# Altium footprint library TPSM84338RCJR.PcbLib: 1 footprints
Each footprint in its own frame and in the unit in brackets; x right, y up, seen from the top. Pads: shape width x height; smd on the part's side, far side on the other; paste and mask are expansions set on the pad; w line width, h text height; cw(c..) or ccw(c..) is an arc to the next point about the centre after c.
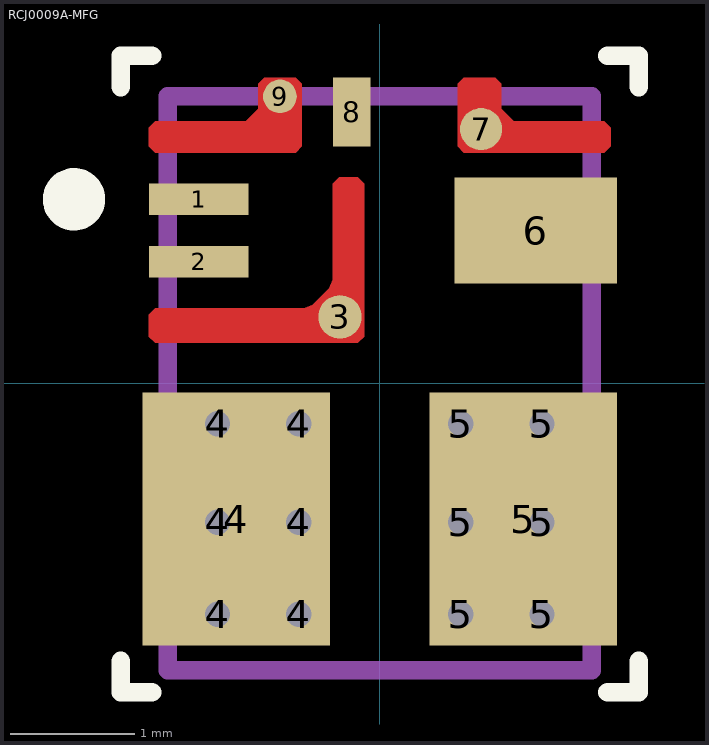
[diagram p0: the footprint, top view; thin cyan lines are the x and y axes]

## RCJ0009A-MFG [mm]
pads (21):
  rect 0.8x0.25 smd paste+0 mask-0.381: 1(-1.45,1.475) 2(-1.45,0.975)
  round 0.348 smd paste-0.161 mask-0.165: 3(-0.319,0.532)
  round 0.5 / inner round 1.524 / far side round 0.5 hole 0.203 paste-2539.97 mask-0.241: 4(-1.3,-1.85) 4(-1.3,-1.113) 4(-1.3,-0.325) 4(-0.65,-1.85) 4(-0.65,-1.113) 4(-0.65,-0.325) 5(0.65,-1.85) 5(0.65,-1.113) 5(0.65,-0.325) 5(1.3,-1.85) 5(1.3,-1.113) 5(1.3,-0.325)
  rect 1.5x2.025 smd paste-1 mask-1.003: 4(-1.15,-1.088) 5(1.15,-1.088)
  rect 1.3x0.85 smd paste-0.637 mask-0.635: 6(1.25,1.225)
  round 0.337 smd paste+0 mask-0.152: 7(0.812,2.037)
  rect 0.3x0.55 smd paste+0 mask-0.267: 8(-0.225,2.175)
  round 0.27 smd paste+0 mask-0.127: 9(-0.8,2.3)
Top Layer:
  region: -0.175,0.326 -1.8,0.325 -1.85,0.375 -1.85,0.55 -1.8,0.6 -0.606,0.6 -0.536,0.63 -0.404,0.761 -0.375,0.832 -0.375,1.6 -0.325,1.65 -0.175,1.65 -0.125,1.6 -0.125,0.376
  region: 0.675,1.85 1.8,1.85 1.85,1.9 1.85,2.05 1.8,2.1 1.075,2.1 0.975,2.2 0.975,2.4 0.925,2.45 0.675,2.45 0.625,2.4 0.625,1.9
  region: -0.675,1.85 -1.8,1.85 -1.85,1.9 -1.85,2.05 -1.8,2.1 -1.075,2.1 -0.975,2.2 -0.975,2.4 -0.925,2.45 -0.675,2.45 -0.625,2.4 -0.625,1.9
Top Overlay:
  circle w0.25: c-2.45,1.475 r0.125
  lines w0.15: -2.075,-2.225 -2.075,-2.475 -1.825,-2.475 ; -2.075,2.375 -2.075,2.625 -1.825,2.625 ; 1.825,-2.475 2.075,-2.475 2.075,-2.225 ; 1.825,2.625 2.075,2.625 2.075,2.375
Top Paste:
  region: 0.675,1.85 1.8,1.85 1.85,1.9 1.85,2.05 1.8,2.1 1.075,2.1 0.975,2.2 0.975,2.4 0.925,2.45 0.675,2.45 0.625,2.4 0.625,1.9
  region: -0.675,1.85 -1.8,1.85 -1.85,1.9 -1.85,2.05 -1.8,2.1 -1.075,2.1 -0.975,2.2 -0.975,2.4 -0.925,2.45 -0.675,2.45 -0.625,2.4 -0.625,1.9
  region: -1.201,-0.203 -1.151,-0.153 -0.526,-0.153 -0.476,-0.203 -0.476,-1.973 -0.526,-2.023 -1.151,-2.023 -1.201,-1.973
  region: 0.476,-0.203 0.526,-0.153 1.151,-0.153 1.201,-0.203 1.201,-1.973 1.151,-2.023 0.526,-2.023 0.476,-1.973
  region: 1.4,-0.74 1.4,-0.59 1.45,-0.54 1.8,-0.54 1.85,-0.59 1.85,-0.74 1.8,-0.79 1.45,-0.79
  region: -1.4,-0.59 -1.4,-0.74 -1.45,-0.79 -1.8,-0.79 -1.85,-0.74 -1.85,-0.59 -1.8,-0.54 -1.45,-0.54
  region: -1.45,-1.29 -1.8,-1.29 -1.85,-1.24 -1.85,-1.09 -1.8,-1.04 -1.45,-1.04 -1.4,-1.09 -1.4,-1.24
  region: 1.85,-1.24 1.8,-1.29 1.45,-1.29 1.4,-1.24 1.4,-1.09 1.45,-1.04 1.8,-1.04 1.85,-1.09
  region: 1.4,-1.59 1.45,-1.54 1.8,-1.54 1.85,-1.59 1.85,-1.74 1.8,-1.79 1.45,-1.79 1.4,-1.74
  region: -1.85,-1.74 -1.85,-1.59 -1.8,-1.54 -1.45,-1.54 -1.4,-1.59 -1.4,-1.74 -1.45,-1.79 -1.8,-1.79
  region: -0.175,1.65 -0.125,1.6 -0.125,0.375 -0.175,0.325 -0.325,0.325 -0.375,0.375 -0.375,1.6 -0.325,1.65
  region: -0.626,0.326 -1.8,0.326 -1.85,0.376 -1.85,0.55 -1.8,0.6 -0.626,0.6 -0.576,0.55 -0.576,0.376
  region: 1.8,0.85 0.7,0.85 0.65,0.9 0.65,1.55 0.7,1.6 1.8,1.6 1.85,1.55 1.85,1.4 1.8,1.35 1.5,1.35 1.45,1.3 1.45,1.15 1.5,1.1 1.8,1.1 1.85,1.05 1.85,0.9
Top Solder:
  region: 1.45,-0.49 1.45,-0.175 1.4,-0.125 0.5,-0.125 0.45,-0.175 0.45,-2 0.5,-2.05 1.4,-2.05 1.45,-2 1.45,-1.84 1.5,-1.79 1.8,-1.79 1.85,-1.74 1.85,-1.59 1.8,-1.54 1.5,-1.54 1.45,-1.49 1.45,-1.34 1.5,-1.29 1.8,-1.29 1.85,-1.24 1.85,-1.09 1.8,-1.04 1.5,-1.04 1.45,-0.99 1.45,-0.84 1.5,-0.79 1.8,-0.79 1.85,-0.74 1.85,-0.59 1.8,-0.54 1.5,-0.54
  region: -1.45,-0.49 -1.45,-0.175 -1.4,-0.125 -0.5,-0.125 -0.45,-0.175 -0.45,-2 -0.5,-2.05 -1.4,-2.05 -1.45,-2 -1.45,-1.84 -1.5,-1.79 -1.8,-1.79 -1.85,-1.74 -1.85,-1.59 -1.8,-1.54 -1.5,-1.54 -1.45,-1.49 -1.45,-1.34 -1.5,-1.29 -1.8,-1.29 -1.85,-1.24 -1.85,-1.09 -1.8,-1.04 -1.5,-1.04 -1.45,-0.99 -1.45,-0.84 -1.5,-0.79 -1.8,-0.79 -1.85,-0.74 -1.85,-0.59 -1.8,-0.54 -1.5,-0.54
  region: -0.175,0.276 -1.8,0.275 -1.9,0.375 -1.9,0.55 -1.8,0.65 -0.606,0.65 -0.571,0.665 -0.44,0.797 -0.425,0.832 -0.425,1.6 -0.325,1.7 -0.175,1.7 -0.075,1.6 -0.075,0.376
  region: 1.8,0.85 0.7,0.85 0.65,0.9 0.65,1.55 0.7,1.6 1.8,1.6 1.85,1.55 1.85,1.4 1.8,1.35 1.5,1.35 1.45,1.3 1.45,1.15 1.5,1.1 1.8,1.1 1.85,1.05 1.85,0.9
  region: 0.675,1.8 1.8,1.8 1.9,1.9 1.9,2.05 1.8,2.15 1.075,2.15 1.025,2.2 1.025,2.4 0.925,2.5 0.675,2.5 0.575,2.4 0.575,1.9
  region: -0.675,1.8 -1.8,1.8 -1.9,1.9 -1.9,2.05 -1.8,2.15 -1.075,2.15 -1.025,2.2 -1.025,2.4 -0.925,2.5 -0.675,2.5 -0.575,2.4 -0.575,1.9
  region: -0.425,2.4 -0.325,2.5 -0.125,2.5 -0.025,2.4 -0.025,1.95 -0.125,1.85 -0.325,1.85 -0.425,1.95
  region: -1.9,1.4 -1.9,1.55 -1.8,1.65 -1.1,1.65 -1,1.55 -1,1.4 -1.1,1.3 -1.8,1.3
  region: -1,1.05 -1,0.9 -1.1,0.8 -1.8,0.8 -1.9,0.9 -1.9,1.05 -1.8,1.15 -1.1,1.15
Mechanical 13:
  lines w0.15: -1.7,-2.3 -1.7,2.3 1.7,2.3 1.7,-2.3 -1.7,-2.3
3D body "RCJ0009A.stp": height 2.05, standoff 0, extent -1.65,-2.25 1.65,2.25